# EAGLE library part A4931METTR-T (library Allegro_By_element14_Batch_1)
3-Phase Brushless DC Motor
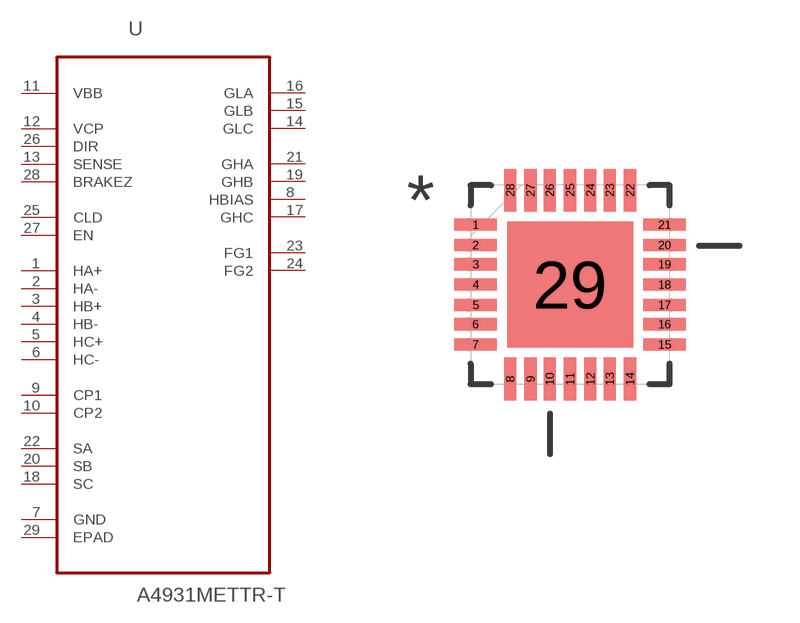
[diagram p5: symbol with the pads of QFN50P500X500X100-29N; footprint QFN50P500X500X100-29N]

Designator prefix U

## A4931METTR-T (MPN: A4931METTR-T; OC_FARNELL: 1688964; OC_NEWARK: 61M4134; PACKAGE: QFN-28; SUPPLIER: ALLEGRO MICROSYSTEMS)  [QFN50P500X500X100-29N]
1  HA+  in
2  HA-  in
3  HB+  in
4  HB-  in
5  HC+  in
6  HC-  in
7  GND  pas
8  HBIAS  out
9  CP1  pas
10  CP2  pas
11  VBB  pwr
12  VCP  pas
13  SENSE  pas
14  GLC  out
15  GLB  out
16  GLA  out
17  GHC  out
18  SC  pas
19  GHB  out
20  SB  pas
21  GHA  out
22  SA  pas
23  FG1  out
24  FG2  out
25  CLD  pas
26  DIR  in
27  EN  in
28  BRAKEZ  in
29  EPAD  pas

## Footprint QFN50P500X500X100-29N (pad centres in mm)
smd 1.067 x 0.305: 1 -2.362,1.499; 2 -2.362,0.991; 3 -2.362,0.508; 4 -2.362,0; 5 -2.362,-0.508; 6 -2.362,-0.991; 7 -2.362,-1.499; 15 2.362,-1.499; 16 2.362,-0.991; 17 2.362,-0.508; 18 2.362,0; 19 2.362,0.508; 20 2.362,0.991; 21 2.362,1.499
smd 0.305 x 1.067: 8 -1.499,-2.362; 9 -0.991,-2.362; 10 -0.508,-2.362; 11 0,-2.362; 12 0.508,-2.362; 13 0.991,-2.362; 14 1.499,-2.362; 22 1.499,2.362; 23 0.991,2.362; 24 0.508,2.362; 25 0,2.362; 26 -0.508,2.362; 27 -0.991,2.362; 28 -1.499,2.362
smd 3.15 x 3.15: 29 0,0